# Altium footprint library Fei-Fei_Power_Distro_V0.4.PcbLib: 31 footprints (part 2 of 2)
Each footprint in its own frame and in the unit in brackets; x right, y up, seen from the top. Pads: shape width x height; smd on the part's side, far side on the other; paste and mask are expansions set on the pad; w line width, h text height; cw(c..) or ccw(c..) is an arc to the next point about the centre after c.
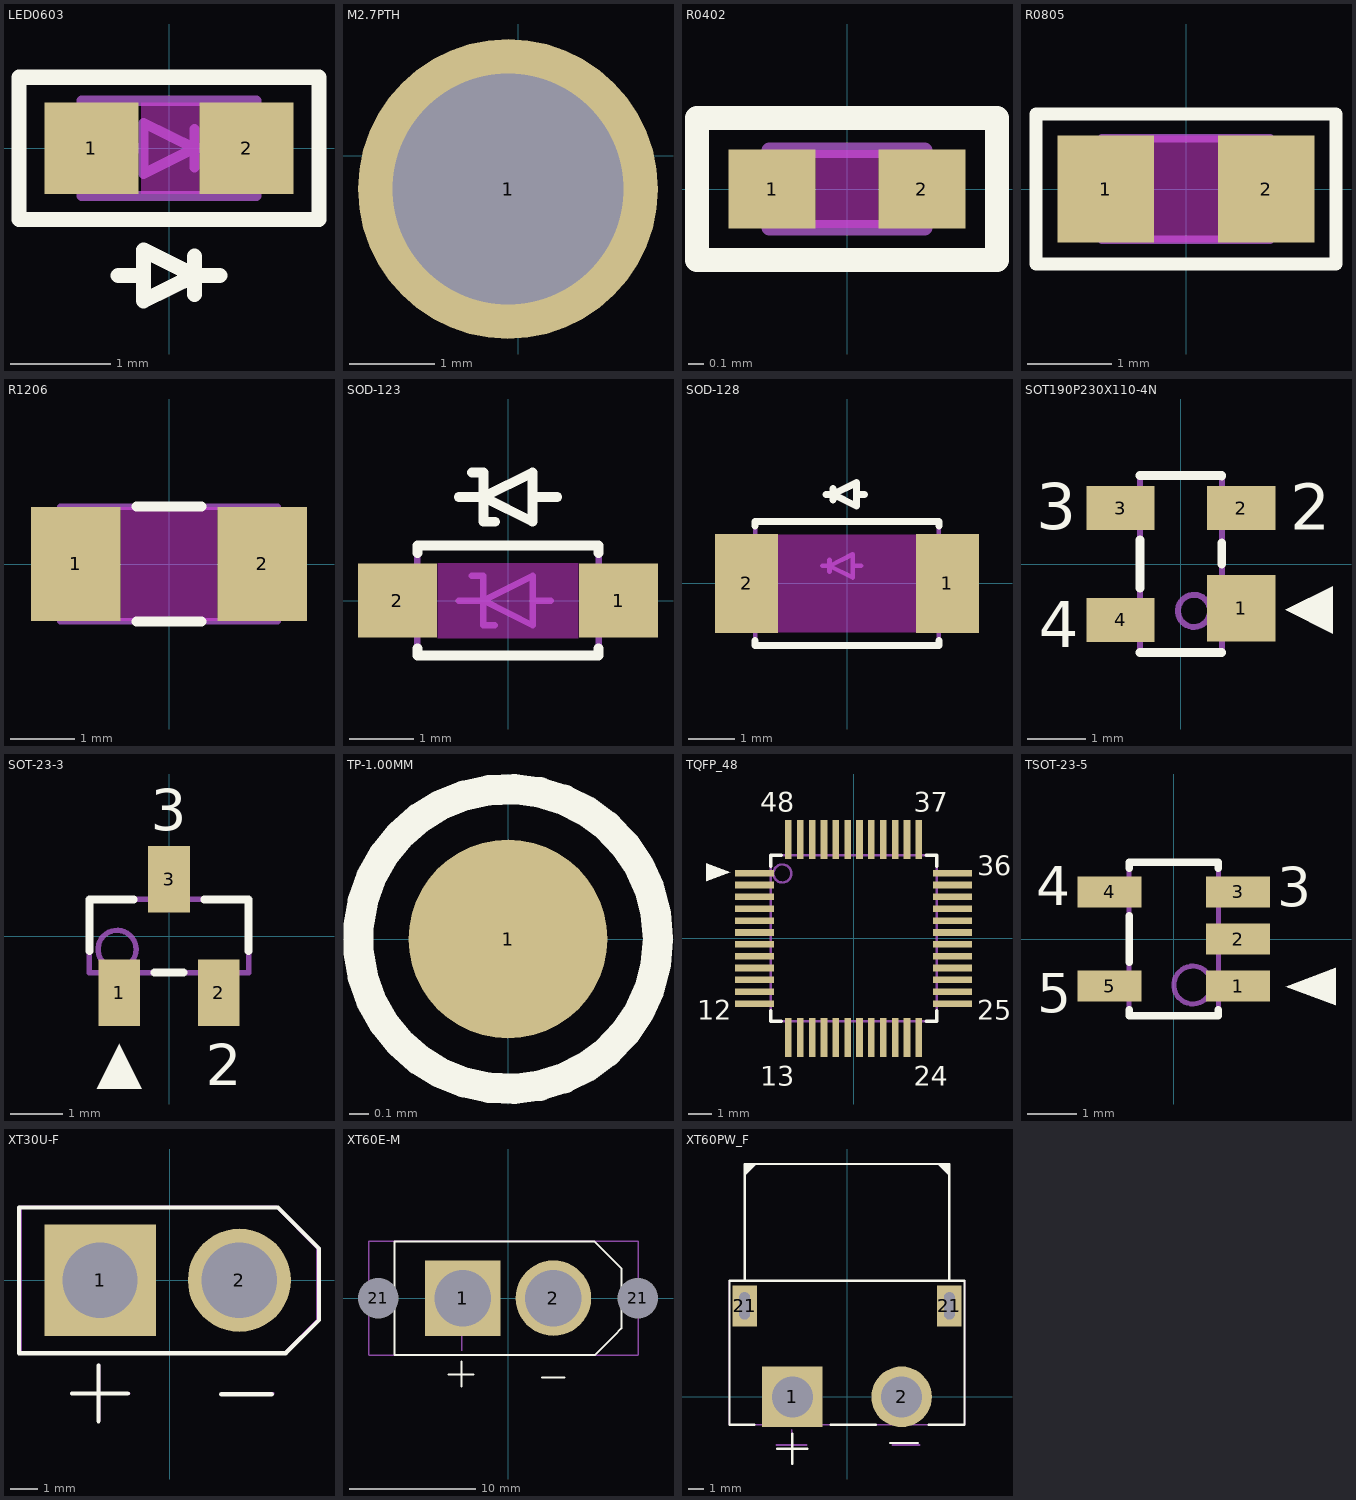
[diagram p1: the footprints below, top view; thin cyan lines are the x and y axes]

## LED0603 [mil] "FP FROM ACRONICS LIB,CHECKED BY DN_MN-07OCT17"
height 39.37
pads (2):
  rect 37x36 smd mask+2.5: 1(-30.5,0) 2(30.5,0)
Top Layer keep-out:
  rectangle: -11,-18 12,18
Top Overlay:
  lines w6: -20,-50 -10,-50 ; 10,-57.5 10,-42.5 ; 20,-50 10,-50 ; 10,-50 -10,-60 -10,-40 10,-50 ; -59,-28 -59,28 59,28 59,-28 -59,-28
Mechanical 11:
  lines w4: -20,0 -10,0 ; 10,-7.5 10,7.5 ; 20,0 10,0 ; 10,0 -10,10 -10,-10 10,0 ; -34.45,-18.7 -34.45,18.7 34.45,18.7 34.45,-18.7 -34.45,-18.7
  text ".Designator" at -90,45 h31

## M2.7PTH [mm] "UPATED BY DN_TN - 30NOV21 (INCREASE PADSIZE FROM 3 TO 3.5)"
height 0.254
pads (1):
  round 3.5 hole 2.7 mask+0.064: 1(-0.117,-0.386)

## R0402 [mil] "MODIFIED BY DN_TN - 12JUL21, CHECKED BY DN_AV - 19JUL21;ADDED 3D BY DN_QN - 24JUL21, CHECKED BY DN_AV - 25NOV21;"
height 24
pads (2):
  rect 22x20 smd mask+2.5: 1(-19,0) 2(19,0)
Top Layer keep-out:
  rectangle: -8,-9.84 8,9.84
Top Overlay:
  lines w6: -38,-18 -38,18 38,18 38,-18 -38,-18
Mechanical 11:
  lines w4: -19.68,-9.84 -19.68,9.84 19.68,9.84 19.68,-9.84 -19.68,-9.84
  text ".Designator" at 25,-10 h31
3D body "R0402.STEP": height 15.75, standoff 0, extent -19.68,-9.84 19.69,9.84

## R0805 [mil] "FP FROM ACRONICS LIB"
height 27.56
pads (2):
  rect 45x50 smd mask+2.5: 1(-37.5,0) 2(37.5,0)
Top Layer keep-out:
  rectangle: -15,-25 15,25
Top Overlay:
  lines w6: -70,-35 70,-35 70,35 -70,35 -70,-35
Mechanical 11:
  lines w4: -39.37,-23.62 39.37,-23.62 39.37,23.62 -39.37,23.62 -39.37,-23.62
  text ".Designator" at -54,-18 h31
3D body "CAP_0805.STEP": height 31.29, standoff 0.5, extent -39.37,-24.6 39.37,24.61

## R1206 [mil] "CHECKED BY DN_TN - 10MAR15, CHECKED BY DN_AV- 25NOV21;ADDED 3D BY DN_QN - 24JUL21"
height 70.87
pads (2):
  rect 55x70 smd mask+2.5: 1(-57.5,0) 2(57.5,0)
Top Layer keep-out:
  rectangle: -30,-35 30,35
Top Overlay:
  lines w6: -20,-35.43 20,-35.43 ; -20,35.43 20,35.43
Mechanical 11:
  lines w4: -66.93,-35.43 -66.93,35.43 66.93,35.43 66.93,-35.43 -66.93,-35.43
  text ".Designator" at -35,-10 h31
3D body "C1206.STEP": height 62.99, standoff 0, extent -62.99,-31.49 63,31.51

## SOD-123 [mil] "BZT52-C5V1X['Nexperia USA Inc.]COLLECTED BY DN_MN-22NOV21; CHECKED BY DN_TN - 23NOV21"
height 55.12
pads (2):
  rect 48x45 smd mask+2.5: 1(67.31,0) 2(-67.31,0)
Top Layer keep-out:
  rectangle: -43,-23 43,23
Top Overlay:
  lines w6: -55.12,-29 -55.12,-33.47 55.12,-33.47 55.12,-29 ; -55.12,29 -55.12,33.47 55.12,33.47 55.12,29 ; -30,63 -15,63 ; -22,78 -15,78 -15,48 -8,48 ; 15,63 30,63 ; -15,63 15,48 15,78 -15,63
Mechanical 11:
  lines w4: -30,0 -15,0 ; -22,15 -15,15 -15,-15 -8,-15 ; 15,0 26.03,0 ; -15,0 15,-15 15,15 -15,0 ; -55.12,-33.47 -55.12,33.47 55.12,33.47 55.12,-33.47 -55.12,-33.47
  text ".Designator" at -95,-50 h31

## SOD-128 [mil] "PMEG6020EP,115  [Nexperia USA Inc. ],COLLECTED BY DN_MN-22NOV21; CHECKED BY DN_TN - 23NOV21"
height 43.31
pads (2):
  rect 54x85 smd mask+2.5: 1(86.06,0) 2(-86.06,0)
Top Layer keep-out:
  rectangle: -59,-42 59,42
Top Overlay:
  lines w6: -78.74,-49 -78.74,-53.15 78.74,-53.15 78.74,-49 ; -78.74,49 -78.74,53.15 78.74,53.15 78.74,49 ; -18,76.37 -12,76.37 ; -12,71.37 -12,81.37 ; 8,76.37 15,76.37 ; -12,76.37 8,86.37 8,66.37 -12,76.37
Mechanical 11:
  lines w4: -21,15 -15,15 ; -15,10 -15,20 ; 5,15 12,15 ; -15,15 5,25 5,5 -15,15 ; -78.74,-53.15 78.74,-53.15 78.74,53.15 -78.74,53.15 -78.74,-53.15
  text ".Designator" at -105,-30 h31

## SOT190P230X110-4N [mil] "P/N: PRTR5V0U2X,215 [NXP]. COLLECTED DN_AV-21NOV21; CHECKED BY DN_TN - 24NOV21"
height 43.31
pads (4):
  rect 46x45 smd mask+2.5: 1(40.72,-29.92)
  rect 46x30 smd mask+2.5: 2(40.72,37.8) 3(-40.72,37.8) 4(-40.72,-37.8)
Top Overlay:
  region: 70.56,-31 102.56,-15 102.56,-47
  lines w6: -27.56,-59.84 27.56,-59.84 27.56,-59.64 ; -27.56,-16.17 -27.56,16.3 ; -27.56,59.84 27.56,59.84 27.56,59.3 ; 27.56,-0.05 27.56,14.19
  text "2" at 73.65,22.97 h31
  text "3" at -97.85,23.33 h31
  text "4" at -96.03,-56.08 h31
Mechanical 11:
  circle w4: c8.77,-31.64 r10.85
  lines w4: -27.56,-59.84 -27.56,59.84 27.56,59.84 27.56,-59.84 -27.56,-59.84
  text ".Designator" at 0,0 h31

## SOT-23-3 [mm] "P/N: 2N7002K [onsemi]. COLLECTED BY DN_AV-22Nov21, CHECKED BY DN_TN - 24NOV21,CHECKED BY DN_QN - 30NOV21(compheight;pad width)"
height 1.15
pads (3):
  rect 0.8x1.27 smd mask+0.064: 1(-0.95,-1.085) 2(0.95,-1.085) 3(0,1.085)
Top Overlay:
  region: -0.95,-2.057 -1.382,-2.921 -0.518,-2.921
  lines w0.152: -1.52,-0.285 -1.52,0.7 -0.673,0.7 ; -0.277,-0.7 0.277,-0.7 ; 0.673,0.7 1.52,0.7 1.52,-0.285
  text "3" at -0.345,2.02 h0.79
  text "2" at 0.705,-2.85 h0.79
Mechanical 11:
  circle w0.102: c-0.991,-0.254 r0.364
  lines w0.102: -1.52,-0.7 1.52,-0.7 1.52,0.7 -1.52,0.7 -1.52,-0.7
  text ".Designator" at -0.381,-0.127 h0.79

## TP-1.00MM [mm] "COLLECTED BY DN_TN - 23NOV21. CHECKED BY DN_AV - 25NOV21"
height 0.254
pads (1):
  round 1 smd paste-1 mask+0.064: 1(0,0)
Top Overlay:
  circle w0.152: c0,0 r0.754
Mechanical 11:
  circle w0.102: c0,0 r0.754
  text ".Designator" at -2.54,1.27 h0.79

## TQFP_48 [mil] "ATMEGA4809-AUR  ; COLLECTED BY DN_TN - 22NOV21, CHECKED BY DN_AV - 25NOV21"
height 47.24
pads (48):
  rect 65x11 smd paste+0 mask+2.5: 1(-164.37,108.27) 2(-164.37,88.58) 3(-164.37,68.9) 4(-164.37,49.21) 5(-164.37,29.53) 6(-164.37,9.84) 7(-164.37,-9.84) 8(-164.37,-29.53) 9(-164.37,-49.21) 10(-164.37,-68.9) 11(-164.37,-88.58) 12(-164.37,-108.27) 25(164.37,-108.27) 26(164.37,-88.58) 27(164.37,-68.9) 28(164.37,-49.21) 29(164.37,-29.53) 30(164.37,-9.84) 31(164.37,9.84) 32(164.37,29.53) 33(164.37,49.21) 34(164.37,68.9) 35(164.37,88.58) 36(164.37,108.27)
  rect 11x65 smd paste+0 mask+2.5: 13(-108.27,-164.37) 14(-88.58,-164.37) 15(-68.9,-164.37) 16(-49.21,-164.37) 17(-29.53,-164.37) 18(-9.84,-164.37) 19(9.84,-164.37) 20(29.53,-164.37) 21(49.21,-164.37) 22(68.9,-164.37) 23(88.58,-164.37) 24(108.27,-164.37) 37(108.27,164.37) 38(88.58,164.37) 39(68.9,164.37) 40(49.21,164.37) 41(29.53,164.37) 42(9.84,164.37) 43(-9.84,164.37) 44(-29.53,164.37) 45(-49.21,164.37) 46(-68.9,164.37) 47(-88.58,164.37) 48(-108.27,164.37)
Top Overlay:
  region: -205,110 -245,125 -245,95
  lines w6: -137.79,-120.27 -137.79,-137.79 -120.27,-137.79 ; -137.79,120.27 -137.79,137.79 -120.27,137.79 ; 120.27,-137.79 137.79,-137.79 137.79,-120.27 ; 120.27,137.79 137.79,137.79 137.79,120.27
  text "48" at -155,210 h33
  text "37" at 100,210 h33
  text "36" at 205,105 h33
  text "25" at 205,-135 h33
  text "24" at 100,-245 h33
  text "13" at -155,-245 h33
  text "12" at -260,-135 h33
Mechanical 11:
  circle w4: c-118.27,107.76 r15
  lines w4: -137.79,-137.79 -137.79,137.79 137.79,137.79 137.79,-137.79 -137.79,-137.79
  text ".Designator" at -105,-5 h31

## TSOT-23-5 [mil] "P/N: RT9080-33GJ5 [Richtek USA Inc.]. collected by DN_AV - 22NOV21;CHECKED BY DN_QN - 25NOV21"
height 39.37
pads (5):
  rect 51x25 smd mask+2.5: 1(51.09,-37.4) 2(51.09,0) 3(51.09,37.4) 4(-51.09,37.4) 5(-51.09,-37.4)
Top Overlay:
  region: 89,-37.8 129,-52.8 129,-22.8
  lines w6: -35.5,-56.4 -35.5,-61 35.5,-61 35.5,-56.4 ; -35.5,-18.4 -35.5,18.4 ; -35.5,56.4 -35.5,61 35.5,61 35.5,56.4
  text "5" at -108.46,-58.27 h31
  text "4" at -109.64,26.77 h31
  text "3" at 82.09,25.98 h31
Mechanical 11:
  circle w4: c15.05,-36.6 r15.05
  lines w4: -35.5,-61 -35.5,61 35.5,61 35.5,-61 -35.5,-61
  text ".Designator" at 0,0 h31

## XT30U-F [mm] "XT30U-F - Checked by MEK on 9/12/2023"
height 8.4
pads (2):
  rect 4x4 / inner round 4 / far side rect 4x4 hole 2.7 mask+0.064: 1(-2.5,0)
  round 3.7 hole 2.7 mask+0.064: 2(2.5,0)
Top Overlay:
  lines w0.152: -3.508,-4.064 -1.508,-4.064 ; -2.559,-5.064 -2.559,-3.064 ; 1.854,-4.089 3.666,-4.089 ; -5.41,-2.616 4.166,-2.616 5.359,-1.422 5.359,1.143 3.886,2.616 -5.41,2.616 -5.41,-2.616
Mechanical 11:
  lines w0.102: -3.458,-4.064 -1.458,-4.064 ; -2.534,-5.039 -2.534,-3.039 ; 1.905,-4.064 3.717,-4.064 ; -5.359,-2.616 4.115,-2.616 5.309,-1.422 5.309,1.143 3.81,2.642 -5.359,2.642 -5.359,-2.616
  text ".Designator" at -2.33,3.099 h0.79
3D body "Part Studio 1 - XT30U-F.step": height 9.4, standoff -3, extent -5.391,-2.6 5.35,2.6

## XT60E-M [mm] "XT60M  MEK - 12OCT21"
height 8.4
pads (4):
  rect 6x6 / inner round 6 / far side rect 6x6 hole 4.5 mask+0.064: 1(-3.6,0)
  round 6 hole 4.5 mask+0.064: 2(3.6,0)
  round 2 hole 3.2 unplated: 21(-10.3,0) 21(10.3,0)
Top Overlay:
  lines w0.152: -4.718,-6.071 -2.718,-6.071 ; -3.695,-7.02 -3.695,-5.02 ; -1.27,-4.5 1.714,-4.5 ; 2.684,-6.299 4.496,-6.299 ; 5.4,-4.5 6.905,-4.5 7.428,-3.976 8.476,-2.928 9,-2.405 9,2.354 6.854,4.5 5.858,4.5 -9,4.5 -9,-4.5 6.152,-4.5
Mechanical 11:
  lines w0.102: -11.049,-4.525 10.338,-4.525 ; -11.049,-4.5 -11.049,4.5 10.338,4.5 10.338,-4.5 ; -4.652,-4.525 -2.652,-4.525 ; -3.652,-4.175 -3.652,-2.175 ; 2.987,-4.525 4.799,-4.525
  text ".Designator" at -2.33,3.099 h0.79
3D body "XT60E-M - XT60E-M.step": height 11.76, standoff -4.89, extent -13.6,-4.55 13.6,4.55

## XT60PW_F [mm] "XT60PW_F  ; CHECKED BY DN_TN - 23NOV21, CHECKED BY DN_AV - 24NOV21"
height 8.4
pads (4):
  rect 4x4 / inner round 4 / far side rect 4x4 hole 2.7 mask+0.064: 1(-3.6,0)
  round 4 hole 2.7 mask+0.064: 2(3.6,0)
  rect 1.6x2.7 hole 1.8 slot 0.7 at 0 deg mask+0.064: 21(-6.75,6) 21(6.75,6)
Top Overlay:
  region: -6.75,14.588 -6.75,15.35 -5.988,15.35
  region: 5.988,15.35 6.75,15.35 6.75,14.588
  lines w0.152: -6.75,7.65 -6.75,15.35 6.75,15.35 6.75,7.65 ; -6.1,-1.85 -7.75,-1.85 -7.75,7.65 7.75,7.65 7.75,-1.85 5.4,-1.85 ; -4.6,-3.429 -2.6,-3.429 ; -3.6,-4.429 -3.6,-2.429 ; -1.084,-1.85 1.9,-1.85 ; 2.86,-3.048 4.672,-3.048
Mechanical 11:
  region: 5.988,15.35 6.75,15.35 6.75,14.588
  region: -6.75,14.588 -6.75,15.35 -5.988,15.35
  lines w0.102: -6.75,7.65 -6.75,15.35 6.75,15.35 6.75,7.65 ; -4.652,-3.175 -2.652,-3.175 ; -3.652,-4.175 -3.652,-2.175 ; 2.987,-3.175 4.799,-3.175 ; -7.75,-1.85 -7.75,7.65 7.75,7.65 7.75,-1.85 -7.75,-1.85
  text ".Designator" at -2.33,3.099 h0.79
3D body "XT60PW FEMALE.step": height 8.11, standoff -1.99, extent -7.75,-2.1 7.75,16.3